# Altium footprint library MD_NMPD01.PcbLib: 1 footprints
Each footprint in its own frame and in the unit in brackets; x right, y up, seen from the top. Pads: shape width x height; smd on the part's side, far side on the other; paste and mask are expansions set on the pad; w line width, h text height; cw(c..) or ccw(c..) is an arc to the next point about the centre after c.
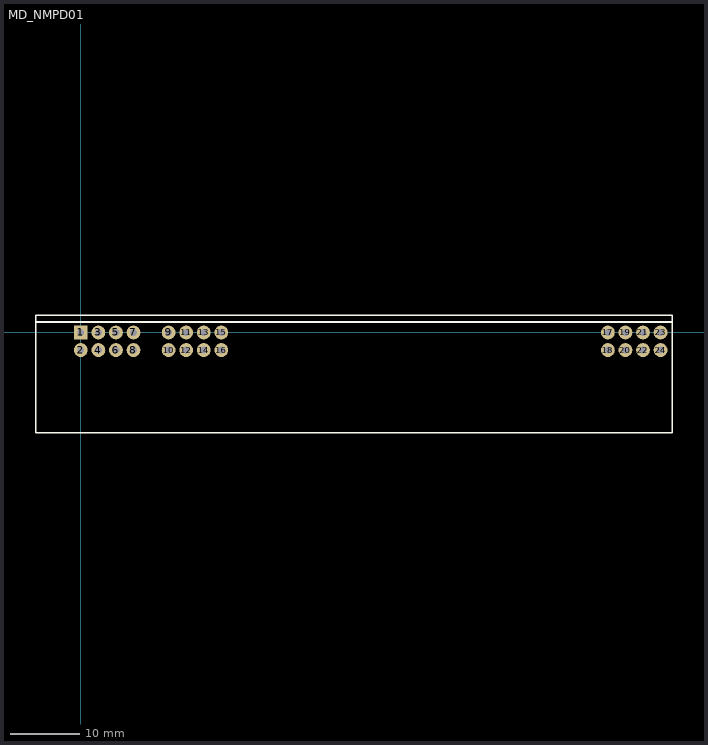
[diagram p0: the footprint, top view; thin cyan lines are the x and y axes]

## MD_NMPD01 [mm] "Power over Ethernet PD module"
pads (24):
  rect 2x2 hole 1: 1(0,0)
  round 2 hole 1: 2(0,-2.54) 3(2.54,0) 4(2.54,-2.54) 5(5.08,0) 6(5.08,-2.54) 7(7.62,0) 8(7.62,-2.54) 9(12.7,0) 10(12.7,-2.54) 11(15.24,0) 12(15.24,-2.54) 13(17.78,0) 14(17.78,-2.54) 15(20.32,0) 16(20.32,-2.54) 17(76.2,0) 18(76.2,-2.54) 19(78.74,0) 20(78.74,-2.54) 21(81.28,0) 22(81.28,-2.54) 23(83.82,0) 24(83.82,-2.54)
Top Overlay:
  lines w0.254: -6.5,1.5 85.5,1.5 ; -6.5,-14.5 -6.5,2.5 85.5,2.5 85.5,-14.5 -6.5,-14.5